# Altium schematic symbol library Schematics.SchLib: 4 symbols
Pins are listed as number, name and electrical type; pins without a type are passive.

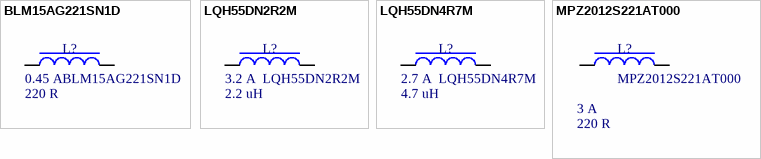
[diagram p0: symbols BLM15AG221SN1D to MPZ2012S221AT000]

## BLM15AG221SN1D
designator L?  Current rating: 0.45 A  Impedance at 100 MHz: 220 R
220 R - 100 MHz, 450mA inductor; Value: *
footprint LC-0402_L
pins: 1, 2

## LQH55DN2R2M
designator L?  value 2.2 uH  Current rating: 3.2 A
2.2 uH 3.2 A inductor; Accuracy: 20 %; DC resistance, Ohm: 0.029±40%
footprint LQH55DNxxxx03L (Murata LQH55DNxxxx03L series inductors)
pins: 1, 2

## LQH55DN4R7M
designator L?  value 4.7 uH  Current rating: 2.7 A
4.7 uH 2.7A inductor; Accuracy: 20 %; DC resistance, Ohm: 0.041±40%
footprint LQH55DNxxxx03L (Murata LQH55DNxxxx03L series inductors)
pins: 1, 2

## MPZ2012S221AT000
designator L?  Current rating: 3 A  Impedance at 100 MHz: 220 R
220 R - 100 MHz, 3A inductor; Value: *
footprint LC-0805_L
pins: 1, 2